# EAGLE library part ATTINY*-14PIN (library IC_Embedded)
Atmel tiny24/44/84, 8-bit Microcontroller with 2/4/8K Bytes In-System Programmable Flash Datasheet <http://ww1.microchip.com/downloads/en/DeviceDoc/doc8006.pdf>
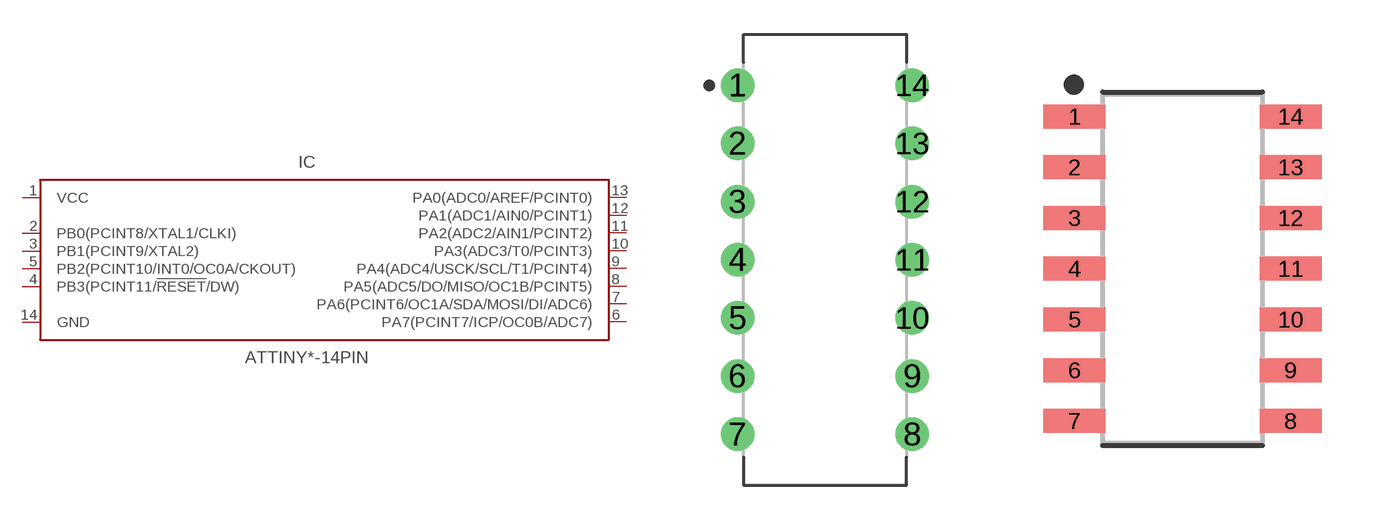
[diagram p25: symbol with the pads of DIP762W55P254L1917H533Q14B; footprints DIP762W55P254L1917H533Q14B, SOIC127P599X175-14N]

Designator prefix IC

## ATTINY24-20PU-14PIN_PDIP (CATEGORY: IC_Embedded; DESCRIPTION: AVR AVR® ATtiny Microcontroller IC 8-Bit 20MHz 2KB (1K x 16) FLASH 14-PDIP; MANUFACTURER: Microchip Technology; MPN: ATtiny24-20PU; OPERATING_TEMP: -40°C to +85°C; PART_STATUS: Active; ROHS_COMPLIANT: COMPLIANT; SERIES: ATtiny24; SPEED: 20 MHz; SUB-CATEGORY: Microcontroller; TYPE: AVR Microcontroller; VALUE: ATtiny24-20PU), ATTINY24V-10PU-14PIN_PDIP (CATEGORY: IC_Embedded; DESCRIPTION: AVR series Microcontroller IC 8-Bit 10MHz 2KB (1K x 16) FLASH 14-PDIP; MANUFACTURER: Microchip Technology; MPN: ATtiny24V-10PU; OPERATING_TEMP: -40°C to +85°C; PART_STATUS: Active; ROHS_COMPLIANT: COMPLIANT; SERIES: ATtiny24; SPEED: 10 MHz; SUB-CATEGORY: Microcontroller; TYPE: AVR Microcontroller; VALUE: ATtiny24V-10PU), ATTINY44-20PU-14PIN_PDIP (CATEGORY: IC_Embedded; DESCRIPTION: AVR AVR® ATtiny Microcontroller IC 8-Bit 20MHz 4KB (2K x 16) FLASH 14-PDIP; MANUFACTURER: Microchip Technology; MPN: ATtiny44-20PU; OPERATING_TEMP: -40°C to +85°C; PART_STATUS: Active; ROHS_COMPLIANT: COMPLIANT; SERIES: ATtiny44; SPEED: 20 MHz; SUB-CATEGORY: Microcontroller; TYPE: AVR Microcontroller; VALUE: ATtiny44-20PU), ATTINY44V-10PU-14PIN_PDIP (CATEGORY: IC_Embedded; DESCRIPTION: AVR AVR® ATtiny Microcontroller IC 8-Bit 10MHz 4KB (2K x 16) FLASH 14-PDIP; MANUFACTURER: Microchip Technology; MPN: ATtiny44V-10PU; OPERATING_TEMP: -40°C to +85°C; PART_STATUS: Active; ROHS_COMPLIANT: COMPLIANT; SERIES: ATtiny44; SPEED: 10 MHz; SUB-CATEGORY: Microcontroller; TYPE: AVR Microcontroller; VALUE: ATtiny44V-10PU), ATTINY84-20PU-14PIN_PDIP (CATEGORY: IC_Embedded; DESCRIPTION: AVR AVR® ATtiny Microcontroller IC 8-Bit 20MHz 8KB (4K x 16) FLASH 14-PDIP; MANUFACTURER: Microchip Technology; MPN: ATtiny84-20PU; OPERATING_TEMP: -40°C to +85°C; PART_STATUS: Active; ROHS_COMPLIANT: COMPLIANT; SERIES: ATtiny84; SPEED: 20 MHz; SUB-CATEGORY: Microcontroller; TYPE: AVR Microcontroller; VALUE: ATtiny84-20PU), ATTINY84V-10PU-14PIN_PDIP (CATEGORY: IC_Embedded; DESCRIPTION: AVR AVR® ATtiny Microcontroller IC 8-Bit 10MHz 8KB (4K x 16) FLASH 14-PDIP; MANUFACTURER: Microchip Technology; MPN: ATtiny84V-10PU; OPERATING_TEMP: -40°C to +85°C; PART_STATUS: Active; ROHS_COMPLIANT: COMPLIANT; SERIES: ATtiny84; SPEED: 10 MHz; SUB-CATEGORY: Microcontroller; TYPE: AVR Microcontroller; VALUE: ATtiny84V-10PU)  [DIP762W55P254L1917H533Q14B]
1  VCC  pwr
2  PB0(PCINT8/XTAL1/CLKI)
3  PB1(PCINT9/XTAL2)
4  PB3(PCINT11/!RESET!/DW)
5  PB2(PCINT10/INT0/OC0A/CKOUT)
6  PA7(PCINT7/ICP/OC0B/ADC7)
7  PA6(PCINT6/OC1A/SDA/MOSI/DI/ADC6)
8  PA5(ADC5/DO/MISO/OC1B/PCINT5)
9  PA4(ADC4/USCK/SCL/T1/PCINT4)
10  PA3(ADC3/T0/PCINT3)
11  PA2(ADC2/AIN1/PCINT2)
12  PA1(ADC1/AIN0/PCINT1)
13  PA0(ADC0/AREF/PCINT0)
14  GND  pwr

## ATTINY24-20SSU-14PIN_SOIC (CATEGORY: IC_Embedded; DESCRIPTION: 8-bit Microcontrollers - MCU 2kB Flash 0.128kB EEPROM 12 I/O Pins; MANUFACTURER: Microchip Technology; MPN: ATtiny24-20SSU; OPERATING_TEMP: -40°C to +85°C; PART_STATUS: Active; ROHS_COMPLIANT: COMPLIANT; SERIES: ATtiny24; SPEED: 20 MHz; SUB-CATEGORY: Microcontroller; TYPE: AVR Microcontroller; VALUE: ATtiny24-20SSU), ATTINY24-20SSUR-14PIN_SOIC (CATEGORY: IC_Embedded; DESCRIPTION: AVR series Microcontroller IC 8-Bit 20MHz 2KB (1K x 16) FLASH 14-SOIC; MANUFACTURER: Microchip Technology; MPN: ATtiny24-20SSUR; OPERATING_TEMP: -40°C to +85°C; PART_STATUS: Active; ROHS_COMPLIANT: COMPLIANT; SERIES: ATtiny24; SPEED: 20 MHz; SUB-CATEGORY: Microcontroller; TYPE: AVR Microcontroller; VALUE: ATtiny24-20SSUR), ATTINY24V-10SSU-14PIN_SOIC (CATEGORY: IC_Embedded; DESCRIPTION: AVR series Microcontroller IC 8-Bit 10MHz 2KB (1K x 16) FLASH 14-SOIC; MANUFACTURER: Microchip Technology; MPN: ATtiny24V-10SSU; OPERATING_TEMP: -40°C to +85°C; PART_STATUS: Active; ROHS_COMPLIANT: COMPLIANT; SERIES: ATtiny24; SPEED: 10 MHz; SUB-CATEGORY: Microcontroller; TYPE: AVR Microcontroller; VALUE: ATtiny24V-10SSU), ATTINY24V-10SSUR-14PIN_SOIC (CATEGORY: IC_Embedded; DESCRIPTION: AVR series Microcontroller IC 8-Bit 10MHz 2KB (1K x 16) FLASH 14-SOIC; MANUFACTURER: Microchip Technology; MPN: ATtiny24V-10SSUR; OPERATING_TEMP: -40°C to +85°C; PART_STATUS: Active; ROHS_COMPLIANT: COMPLIANT; SERIES: ATtiny24; SPEED: 10 MHz; SUB-CATEGORY: Microcontroller; TYPE: AVR Microcontroller; VALUE: ATtiny24V-10SSUR), ATTINY44-20SSU-14PIN_SOIC (CATEGORY: IC_Embedded; DESCRIPTION: 8-bit Microcontrollers - MCU 4kB Flash 0.256kB EEPROM 12 I/O Pins; MANUFACTURER: Microchip Technology; MPN: ATtiny44-20SSU; OPERATING_TEMP: -40°C to +85°C; PART_STATUS: Active; ROHS_COMPLIANT: COMPLIANT; SERIES: ATtiny44; SPEED: 20 MHz; SUB-CATEGORY: Microcontroller; TYPE: AVR Microcontroller; VALUE: ATtiny44-20SSU), ATTINY44-20SSUR-14PIN_SOIC (CATEGORY: IC_Embedded; DESCRIPTION: 8-bit Microcontrollers - MCU 4KB FLSH 256B EESRAM 20MHz, IND TEMP; MANUFACTURER: Microchip Technology; MPN: ATtiny44-20SSUR; OPERATING_TEMP: -40°C to +85°C; PART_STATUS: Active; ROHS_COMPLIANT: COMPLIANT; SERIES: ATtiny44; SPEED: 20 MHz; SUB-CATEGORY: Microcontroller; TYPE: AVR Microcontroller; VALUE: ATtiny44-20SSUR), ATTINY44V-10SSU-14PIN_SOIC (CATEGORY: IC_Embedded; DESCRIPTION: AVR series Microcontroller IC 8-Bit 10MHz 4KB (2K x 16) FLASH 14-SOIC; MANUFACTURER: Microchip Technology; MPN: ATtiny44V-10SSU; OPERATING_TEMP: -40°C to +85°C; PART_STATUS: Active; ROHS_COMPLIANT: COMPLIANT; SERIES: ATtiny44; SPEED: 10 MHz; SUB-CATEGORY: Microcontroller; TYPE: AVR Microcontroller; VALUE: ATtiny44V-10SSU), ATTINY44V-10SSUR-14PIN_SOIC (CATEGORY: IC_Embedded; DESCRIPTION: AVR AVR® ATtiny Microcontroller IC 8-Bit 10MHz 4KB (2K x 16) FLASH 14-SOIC; MANUFACTURER: Microchip Technology; MPN: ATtiny44V-10SSUR; OPERATING_TEMP: -40°C to +85°C; PART_STATUS: Active; ROHS_COMPLIANT: COMPLIANT; SERIES: ATtiny44; SPEED: 10 MHz; SUB-CATEGORY: Microcontroller; TYPE: AVR Microcontroller; VALUE: ATtiny44V-10SSUR), ATTINY84-20SSU-14PIN_SOIC (CATEGORY: IC_Embedded; DESCRIPTION: AVR series Microcontroller IC 8-Bit 20MHz 8KB (4K x 16) FLASH 14-SOIC; MANUFACTURER: Microchip Technology; MPN: ATtiny84-20SSU; OPERATING_TEMP: -40°C to +85°C; PART_STATUS: Active; ROHS_COMPLIANT: COMPLIANT; SERIES: ATtiny84; SPEED: 20 MHz; SUB-CATEGORY: Microcontroller; TYPE: AVR Microcontroller; VALUE: ATtiny84-20SSU), ATTINY84-20SSUR-14PIN_SOIC (CATEGORY: IC_Embedded; DESCRIPTION: AVR series Microcontroller IC 8-Bit 20MHz 8KB (4K x 16) FLASH 14-SOIC; MANUFACTURER: Microchip Technology; MPN: ATtiny84-20SSUR; OPERATING_TEMP: -40°C to +85°C; PART_STATUS: Active; ROHS_COMPLIANT: COMPLIANT; SERIES: ATtiny84; SPEED: 20 MHz; SUB-CATEGORY: Microcontroller; TYPE: AVR Microcontroller; VALUE: ATtiny84-20SSUR), ATTINY84V-10SSU-14PIN_SOIC (CATEGORY: IC_Embedded; DESCRIPTION: AVR series Microcontroller IC 8-Bit 10MHz 8KB (4K x 16) FLASH 14-SOIC; MANUFACTURER: Microchip Technology; MPN: ATtiny84V-10SSU; OPERATING_TEMP: -40°C to +85°C; PART_STATUS: Active; ROHS_COMPLIANT: COMPLIANT; SERIES: ATtiny84; SPEED: 10 MHz; SUB-CATEGORY: Microcontroller; TYPE: AVR Microcontroller; VALUE: ATtiny84V-10SSU), ATTINY84V-10SSUR-14PIN_SOIC (CATEGORY: IC_Embedded; DESCRIPTION: AVR AVR® ATtiny Microcontroller IC 8-Bit 10MHz 8KB (4K x 16) FLASH 14-SOIC; MANUFACTURER: Microchip Technology; MPN: ATtiny84V-10SSUR; OPERATING_TEMP: -40°C to +85°C; PART_STATUS: Active; ROHS_COMPLIANT: COMPLIANT; SERIES: ATtiny84; SPEED: 10 MHz; SUB-CATEGORY: Microcontroller; TYPE: AVR Microcontroller; VALUE: ATtiny84V-10SSUR)  [SOIC127P599X175-14N]
Pads as for DIP762W55P254L1917H533Q14B

## Footprint DIP762W55P254L1917H533Q14B (pad centres in mm)
14-DIP, 2.54 mm (0.10 in) pitch, 7.62 mm (0.30 in) span, 19.18 X 6.60 X 5.33 mm body 14-pin DIP package with 2.54 mm (0.10 in) pitch, 7.62 mm (0.30 in) span with body size 19.18 X 6.60 X 5.33 mm
drill 0.863 pad 1.463: 1 -3.81,7.62; 2 -3.81,5.08; 3 -3.81,2.54; 4 -3.81,0; 5 -3.81,-2.54; 6 -3.81,-5.08; 7 -3.81,-7.62; 8 3.81,-7.62; 9 3.81,-5.08; 10 3.81,-2.54; 11 3.81,0; 12 3.81,2.54; 13 3.81,5.08; 14 3.81,7.62

## Footprint SOIC127P599X175-14N (pad centres in mm)
14-SOIC, 1.27 mm pitch, 6.00 mm span, 8.64 X 3.90 X 1.75 mm body 14-pin SOIC package with 1.27 mm pitch, 6.00 mm span with body size 8.64 X 3.90 X 1.75 mm
smd 1.55 x 0.6: 1 -2.7,3.81; 2 -2.7,2.54; 3 -2.7,1.27; 4 -2.7,0; 5 -2.7,-1.27; 6 -2.7,-2.54; 7 -2.7,-3.81; 8 2.7,-3.81; 9 2.7,-2.54; 10 2.7,-1.27; 11 2.7,0; 12 2.7,1.27; 13 2.7,2.54; 14 2.7,3.81